# EAGLE library part CONNECTOR-IO4 (library SPCoast)
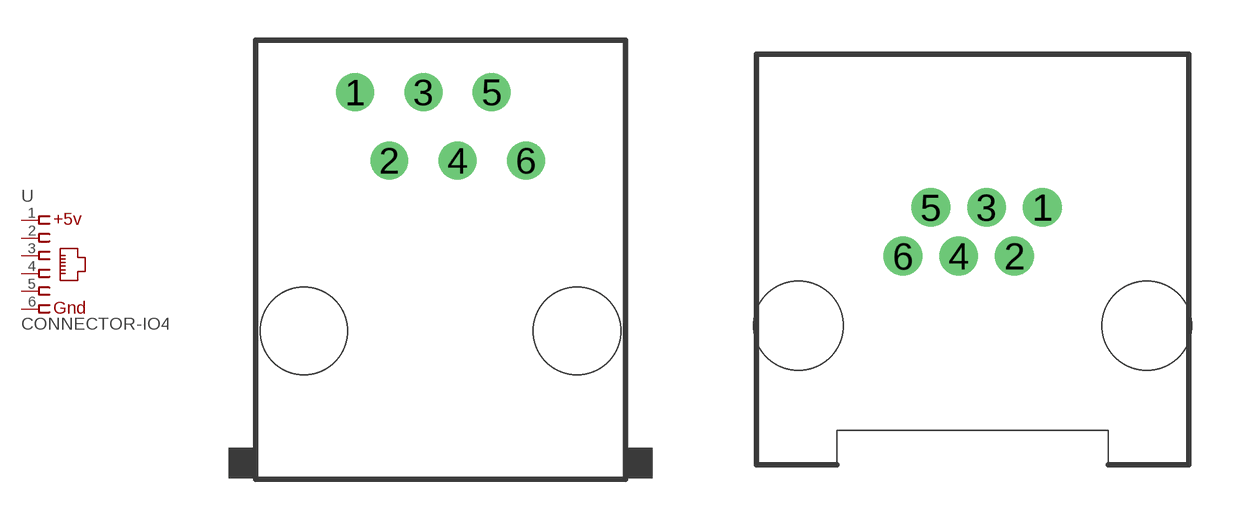
[diagram p5: symbol with the pads of IO4-RJ12; footprints IO4-RJ12, RJ25-INVERTED]

Designator prefix -

## CONNECTOR-IO4STD  [IO4-RJ12]
1  1  pwr
2  2  pas
3  3  pas
4  4  pas
5  5  pas
6  6  pwr

## CONNECTOR-IO4INV  [RJ25-INVERTED]
Pads as for IO4-RJ12

## CONNECTOR-IO4PNL  [RJ25-PANEL]
Pads as for IO4-RJ12

## CONNECTOR-IO4TOP  [RJ25-TOP]
Pads as for IO4-RJ12

## Footprint IO4-RJ12 (pad centres in mm)
drill 0.9 pad 1.4: 1 -3.175,8.89; 2 -1.905,6.35; 3 -0.635,8.89; 4 0.635,6.35; 5 1.905,8.89; 6 3.175,6.35
hole 3.251 at -5.08,0
hole 3.251 at 5.08,0

## Footprint RJ25-INVERTED (pad centres in mm)
drill 0.9 pad 1.4: 1 2.54,4.318; 2 1.524,2.54; 3 0.508,4.318; 4 -0.508,2.54; 5 -1.524,4.318; 6 -2.54,2.54
hole 3.251 at -6.35,0
hole 3.251 at 6.35,0

## Footprint RJ25-PANEL (pad centres in mm)
Modular Jack with Panel Stops
drill 0.889: 1 -3.175,8.89; 2 -1.905,6.35; 3 -0.635,8.89; 4 0.635,6.35; 5 1.905,8.89; 6 3.175,6.35
hole 3.251 at -5.08,0
hole 3.251 at 5.08,0

## Footprint RJ25-TOP (pad centres in mm)
drill 0.9 pad 1.4: 1 -3.175,8.89; 2 -1.905,6.35; 3 -0.635,8.89; 4 0.635,6.35; 5 1.905,8.89; 6 3.175,6.35
hole 3.251 at -5.08,0
hole 3.251 at 5.08,0